# EAGLE library part LTC6752*?-2 (library LTC6752)
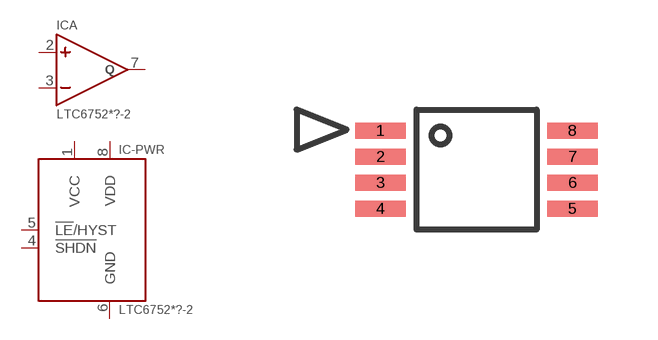
[diagram p1: symbol with the pads of MSOP8; footprint MSOP8]

Designator prefix IC; gates A=LTC6752-AMP-WITHOUT-!Q -PWR=LTC6752-PWR-WITH-VDD-LEHYST-SHDN

## LTC6752HMS8-2 (MARK: LTGKW; MF: Texas Instruments; MPN: LTC6752HMS8-2#TRPBF), LTC6752IMS8-2 (MARK: LTGKW; MF: Texas Instruments; MPN: LTC6752IMS8-2#TRPBF)  [MSOP8]
1  -PWR:VCC  in
2  A:IN+  in
3  A:IN-  in
4  -PWR:!SHDN  in
5  -PWR:!LE!/HYST  in
6  -PWR:GND  in
7  A:Q  in
8  -PWR:VDD  in

## Footprint MSOP8 (pad centres in mm)
smd 1.26 x 0.4: 1 -2.4,0.975; 2 -2.4,0.325; 3 -2.4,-0.325; 4 -2.4,-0.975; 5 2.4,-0.975; 6 2.4,-0.325; 7 2.4,0.325; 8 2.4,0.975